# EAGLE library part 623326235321 (library Wuerth_Elektronik_eiCan_Pin_&_Socked_Headers_v1.3)
WR-PHD 1.27mm Dual SMT Socket Header H=2.20mm, Bottom Entry, 26 Pins
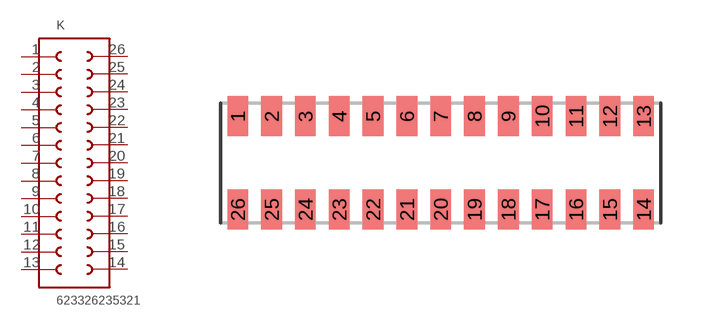
[diagram p351: symbol with the pads of 623326235321; footprint 623326235321]

Designator prefix K

## 623326235321  [623326235321]
1  1  pas
2  2  pas
3  3  pas
4  4  pas
5  5  pas
6  6  pas
7  7  pas
8  8  pas
9  9  pas
10  10  pas
11  11  pas
12  12  pas
13  13  pas
14  14  pas
15  15  pas
16  16  pas
17  17  pas
18  18  pas
19  19  pas
20  20  pas
21  21  pas
22  22  pas
23  23  pas
24  24  pas
25  25  pas
26  26  pas

## Footprint 623326235321 (pad centres in mm)
WR-PHD 1.27mm Dual SMT Socket Header H=2.20mm, Bottom Entry, 26 Pins
smd 0.78 x 1.5: 1 -7.62,1.75; 2 -6.35,1.75; 3 -5.08,1.75; 4 -3.81,1.75; 5 -2.54,1.75; 6 -1.27,1.75; 7 0,1.75; 8 1.27,1.75; 9 2.54,1.75; 10 3.81,1.75; 11 5.08,1.75; 12 6.35,1.75; 13 7.62,1.75; 14 7.62,-1.75; 15 6.35,-1.75; 16 5.08,-1.75; 17 3.81,-1.75; 18 2.54,-1.75; 19 1.27,-1.75; 20 0,-1.75; 21 -1.27,-1.75; 22 -2.54,-1.75; 23 -3.81,-1.75; 24 -5.08,-1.75; 25 -6.35,-1.75; 26 -7.62,-1.75